# Altium schematic symbol library SPECIAL.SchLib: 30 symbols
Pins are listed as number, name and electrical type; pins without a type are passive.

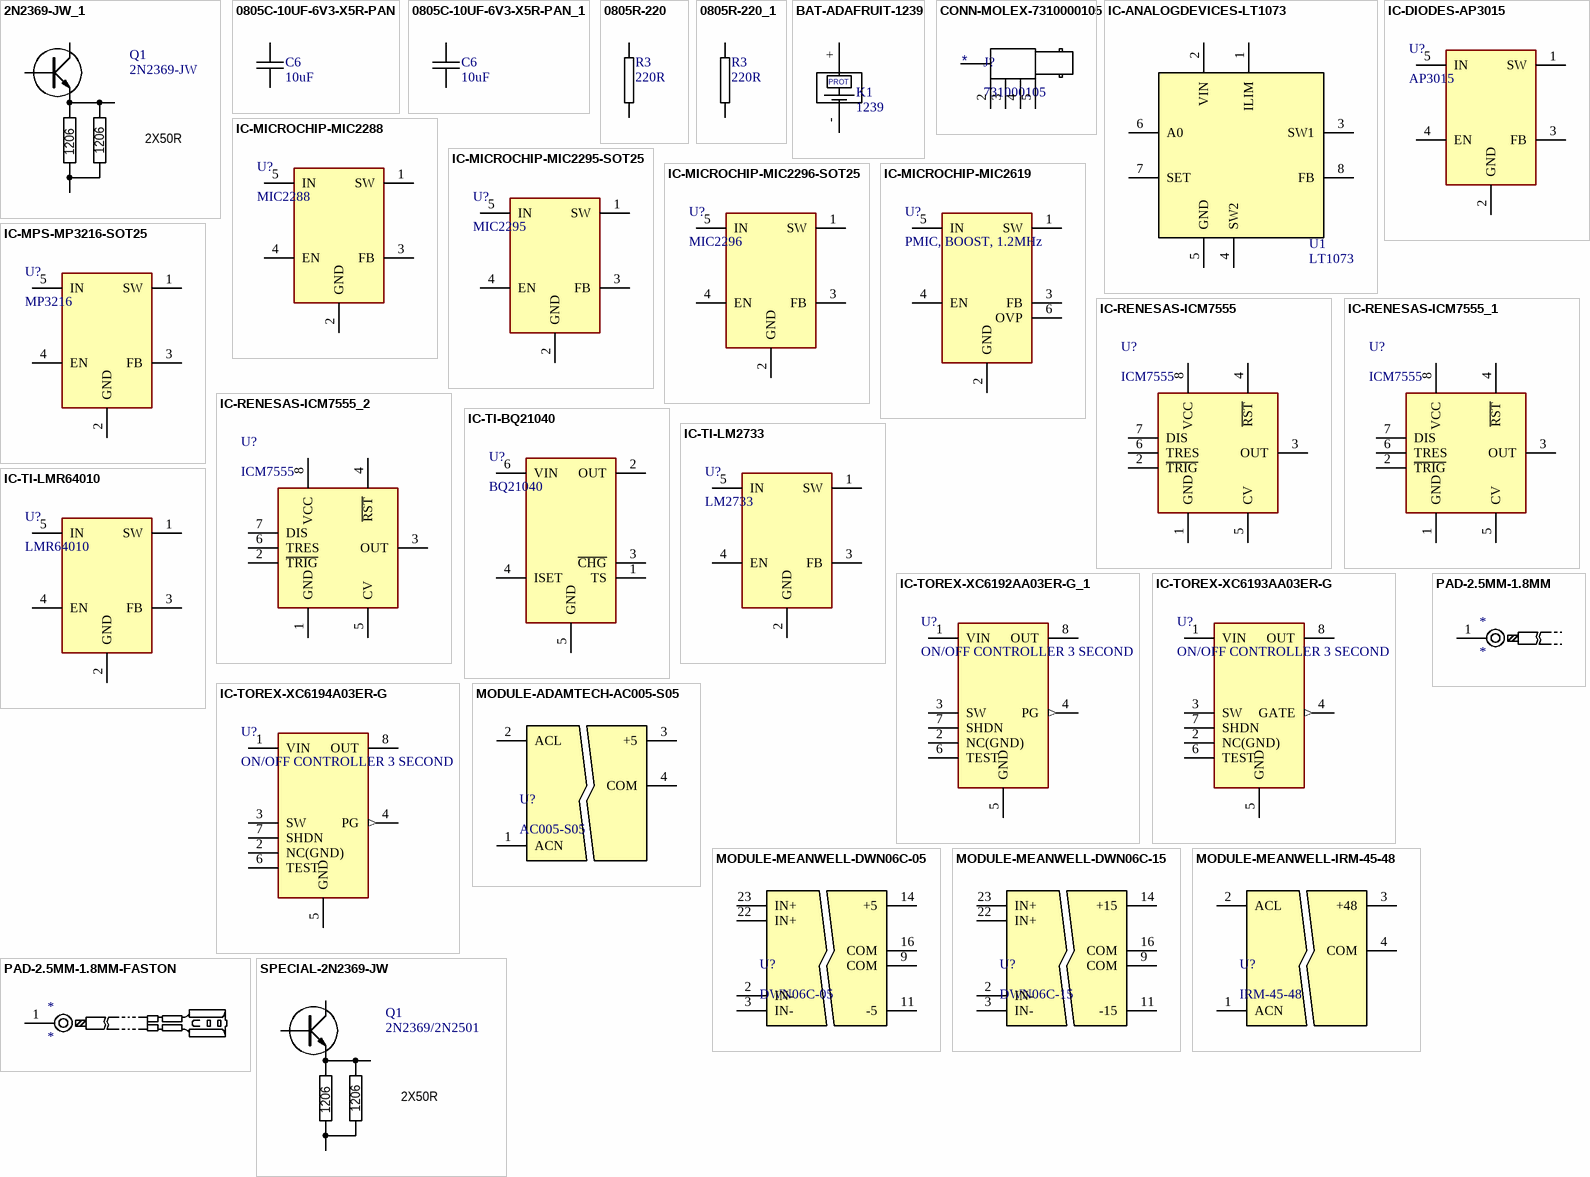
[diagram p0: symbols 2N2369-JW_1 to SPECIAL-2N2369-JW]

## 2N2369-JW_1
designator Q1, comment 2N2369-JW
Manufacturer 1: MOTOROLA / NATSEMI; Manufacturer Part Number 1: 2N2501 / 2N2367; Supplier 1: Mouser; Supplier Part Number 1: 610-2N2369A; MOUSER: CUSTOM BENT, GOLD PINS, NOT 'A' VERSION
footprint JW2N2369 (Footprint not found)
pins: B, C, G
text: 1206; 2X50R

## 0805C-10UF-6V3-X5R-PAN
designator C6, comment 10uF
CAPACITOR 0805 CERAMIC; Manufacturer: Panasonic - ECG; Manufacturer Part Number: ECJ-2FB0J106M; Reel: C1; Capacitance: 10µF; Voltage - Rated: 6.3V; Temperature Coefficient: X5R; Tolerance: ±20%; Supplier 1: Digi-Key; Supplier Part Number 1: PCC2225TR-ND; Supplier: Digi-Key; Operating Temperature: -55°C ~ 85°C; Mounting Type: Surface Mount, MLCC; Lead Spacing: -; RoHS: RoHS Compliant; Packaging: Tape & Reel (TR); Thickness: 1.25mm; Package / Case: 0805 (2012 metric); Features: General Purpose; Category: Capacitors; Supplier Part Number: PCC2225TR-ND
footprint 0805C-GENERIC (CAPACITOR 0805)
pins: 1, 2

## 0805C-10UF-6V3-X5R-PAN_1
designator C6, comment 10uF
CAPACITOR 0805 CERAMIC; Manufacturer: Panasonic - ECG; Manufacturer Part Number: ECJ-2FB0J106M; Reel: C1; Capacitance: 10µF; Voltage - Rated: 6.3V; Temperature Coefficient: X5R; Tolerance: ±20%; Supplier 1: Digi-Key; Supplier Part Number 1: PCC2225TR-ND; Supplier: Digi-Key; Operating Temperature: -55°C ~ 85°C; Mounting Type: Surface Mount, MLCC; Lead Spacing: -; RoHS: RoHS Compliant; Packaging: Tape & Reel (TR); Thickness: 1.25mm; Package / Case: 0805 (2012 metric); Features: General Purpose; Category: Capacitors; Supplier Part Number: PCC2225TR-ND
footprint 0805C-GENERIC (CAPACITOR 0805)
pins: 1, 2

## 0805R-220
designator R3, comment 220R
RESISTOR 0805 1/4 WATT THIN FILM; Reel: *
footprint 0805R-220 (RESISTOR 0805)
pins: 1, 2

## 0805R-220_1
designator R3, comment 220R
RESISTOR 0805 1/4 WATT THIN FILM; Reel: *
footprint 0805R-220 (RESISTOR 0805)
pins: 1, 2

## BAT-ADAFRUIT-1239
designator K1, comment 1239
BU2032SM-HD-G; Supplier 1: Digi-Key; Supplier Part Number 1: BU2032SM-HD-GDKR-ND
footprint BATCLIP-CR2032 (BATTERY CLIP 2032 SMD)
pins: +, -
text: PROT

## CONN-MOLEX-7310000105
designator J?, comment 731000105
CONN,BNC,RA
pins: 2 VIN, 3 VIN, 4 VIN, 5 VIN

## IC-ANALOGDEVICES-LT1073
designator U1, comment LT1073
footprint SO8
pins: 1 ILIM, 2 VIN, 3 SW1, 4 SW2, 5 GND, 6 A0, 7 SET, 8 FB

## IC-DIODES-AP3015
designator U?, comment AP3015
pins: 1 SW, 2 GND, 3 FB, 4 EN, 5 IN

## IC-MICROCHIP-MIC2288
designator U?, comment MIC2288
pins: 1 SW, 2 GND, 3 FB, 4 EN, 5 IN

## IC-MICROCHIP-MIC2295-SOT25
designator U?, comment MIC2295
pins: 1 SW, 2 GND, 3 FB, 4 EN, 5 IN

## IC-MICROCHIP-MIC2296-SOT25
designator U?, comment MIC2296
pins: 1 SW, 2 GND, 3 FB, 4 EN, 5 IN

## IC-MICROCHIP-MIC2619
designator U?, comment PMIC, BOOST, 1.2MHz
pins: 1 SW, 2 GND, 3 FB, 4 EN, 5 IN, 6 OVP

## IC-MPS-MP3216-SOT25
designator U?, comment MP3216
pins: 1 SW, 2 GND, 3 FB, 4 EN, 5 IN

## IC-RENESAS-ICM7555
designator U?, comment ICM7555
pins: 1 GND, 2 ~{TRIG}, 3 OUT, 4 ~{RST}, 5 CV, 6 TRES, 7 DIS, 8 VCC

## IC-RENESAS-ICM7555_1
designator U?, comment ICM7555
pins: 1 GND, 2 ~{TRIG}, 3 OUT, 4 ~{RST}, 5 CV, 6 TRES, 7 DIS, 8 VCC

## IC-RENESAS-ICM7555_2
designator U?, comment ICM7555
pins: 1 GND, 2 ~{TRIG}, 3 OUT, 4 ~{RST}, 5 CV, 6 TRES, 7 DIS, 8 VCC

## IC-TI-BQ21040
designator U?, comment BQ21040
LiION CHARGER
pins: 1 TS, 2 OUT, 3 ~{CHG}, 4 ISET, 5 GND, 6 VIN

## IC-TI-LM2733
designator U?, comment LM2733
pins: 1 SW, 2 GND, 3 FB, 4 EN, 5 IN

## IC-TI-LMR64010
designator U?, comment LMR64010
pins: 1 SW, 2 GND, 3 FB, 4 EN, 5 IN

## IC-TOREX-XC6192AA03ER-G_1
designator U?, comment ON/OFF CONTROLLER 3 SECOND
pins: 1 VIN, 2 NC(GND), 3 SW, 4 PG (out), 5 GND, 6 TEST, 7 SHDN, 8 OUT

## IC-TOREX-XC6193AA03ER-G
designator U?, comment ON/OFF CONTROLLER 3 SECOND
pins: 1 VIN, 2 NC(GND), 3 SW, 4 GATE (out), 5 GND, 6 TEST, 7 SHDN, 8 OUT

## IC-TOREX-XC6194A03ER-G
designator U?, comment ON/OFF CONTROLLER 3 SECOND
pins: 1 VIN, 2 NC(GND), 3 SW, 4 PG (out), 5 GND, 6 TEST, 7 SHDN, 8 OUT

## MODULE-ADAMTECH-AC005-S05
designator U?, comment AC005-S05
MOD,AC/DC,ISO,90...264 AC,+5V OUT,1A
footprint MODULE-ADAMTECH-AC005-S05
pins: 1 ACN, 2 ACL, 3 +5, 4 COM

## MODULE-MEANWELL-DWN06C-05
designator U?, comment DWN06C-05
MOD,DC/DC,ISO,DC 36...72V IN,+/-5V OUT,1A
footprint MODULE-MEANWELL-DCWN06C
pins: 2 IN-, 3 IN-, 9 COM, 11 -5, 14 +5, 16 COM, 22 IN+, 23 IN+

## MODULE-MEANWELL-DWN06C-15
designator U?, comment DWN06C-15
MOD,DC/DC,ISO,DC 36...72V IN,+/-15V OUT,200mA
footprint MODULE-MEANWELL-DCWN06C
pins: 2 IN-, 3 IN-, 9 COM, 11 -15, 14 +15, 16 COM, 22 IN+, 23 IN+

## MODULE-MEANWELL-IRM-45-48
designator U?, comment IRM-45-48
MOD,AC/DC,ISO,90...264 AC,+48V OUT,1A
footprint MODULE-MEANWELL-IRM-45-48
pins: 1 ACN, 2 ACL, 3 +48, 4 COM

## PAD-2.5MM-1.8MM
designator *  (no BOM)
PAD,WIRE TO BOARD,2.5mm DIA, 1.8mm HOLE, NOBOM
pins: 1

## PAD-2.5MM-1.8MM-FASTON
designator *  (no BOM)
PAD,FASTON WIRE TO BOARD,2.5mm DIA, 1.8mm HOLE, NOBOM
pins: 1

## SPECIAL-2N2369-JW
designator Q1, comment 2N2369/2N2501
TRANSISTOR, 2N2369 OR 2N2501, GOLD PINS, NOT 'A' VERSION; Manufacturer 1: SELECTED; Supplier 1: Mouser; Supplier Part Number 1: 610-2N2369A; Manufacturer Part Number 1: SELECTED; MOUSER: SELECTED
footprint SPECIAL-2N2369-JW
pins: B, C, G
text: 1206; 2X50R